# Altium footprint library Switch_Lib.PcbLib: 4 footprints
Each footprint in its own frame and in the unit in brackets; x right, y up, seen from the top. Pads: shape width x height; smd on the part's side, far side on the other; paste and mask are expansions set on the pad; w line width, h text height; cw(c..) or ccw(c..) is an arc to the next point about the centre after c.
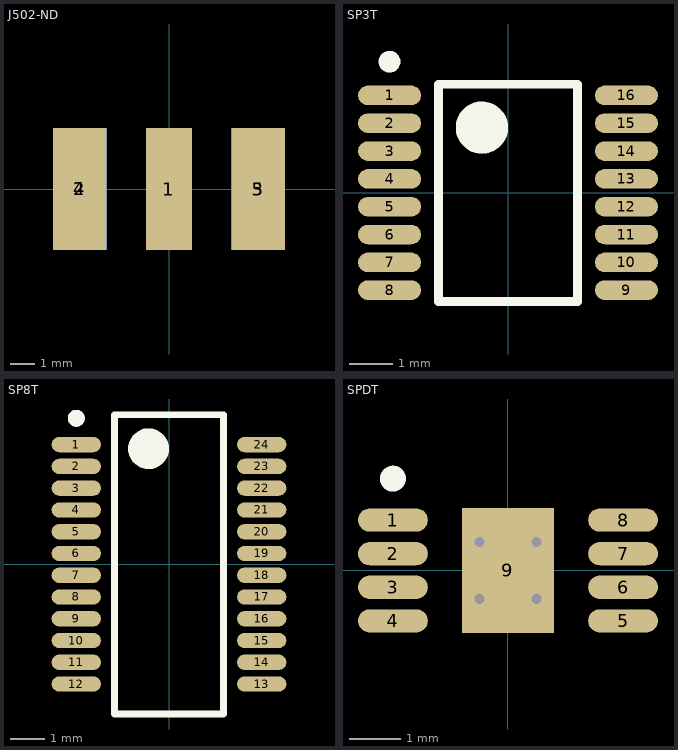
[diagram p0: the footprints below, top view; thin cyan lines are the x and y axes]

## J502-ND [mm]
pads (5):
  rect 1.9x5 smd: 1(-0.003,0)
  rect 2.2x5 smd: 2(-3.661,0) 3(3.661,0)
  rect 2.2x5 smd far side: 4(-3.661,0) 5(3.661,0)

## SP3T [mm] "SOP, 16-Leads, Body 4.90x3.90mm, Pitch 0.64mm, IPC Medium Density"
height 1.75
pads (16):
  oval 1.45x0.45 smd: 1(-2.725,2.24) 2(-2.725,1.6) 3(-2.725,0.96) 4(-2.725,0.32) 5(-2.725,-0.32) 6(-2.725,-0.96) 7(-2.725,-1.6) 8(-2.725,-2.24) 9(2.725,-2.24) 10(2.725,-1.6) 11(2.725,-0.96) 12(2.725,-0.32) 13(2.725,0.32) 14(2.725,0.96) 15(2.725,1.6) 16(2.725,2.24)
Top Overlay:
  circle w0.25: c-2.725,3.015 r0.125
  circle w0.6: c-0.6,1.5 r0.3
  lines w0.2: -1.6,-2.5 -1.6,2.5 1.6,2.5 1.6,-2.5 -1.6,-2.5

## SP8T [mm] "SOP, 24-Leads, Body 8.65x3.90mm, Pitch 0.64mm, IPC Medium Density"
height 1.75
pads (24):
  oval 1.45x0.45 smd: 1(-2.725,3.52) 2(-2.725,2.88) 3(-2.725,2.24) 4(-2.725,1.6) 5(-2.725,0.96) 6(-2.725,0.32) 7(-2.725,-0.32) 8(-2.725,-0.96) 9(-2.725,-1.6) 10(-2.725,-2.24) 11(-2.725,-2.88) 12(-2.725,-3.52) 13(2.725,-3.52) 14(2.725,-2.88) 15(2.725,-2.24) 16(2.725,-1.6) 17(2.725,-0.96) 18(2.725,-0.32) 19(2.725,0.32) 20(2.725,0.96) 21(2.725,1.6) 22(2.725,2.24) 23(2.725,2.88) 24(2.725,3.52)
Top Overlay:
  circle w0.6: c-0.6,3.4 r0.3
  circle w0.25: c-2.725,4.295 r0.125
  lines w0.2: -1.6,-4.4 1.6,-4.4 1.6,4.4 -1.6,4.4 -1.6,-4.4

## SPDT [mm] "SPDT"
height 1.1
pads (9):
  oval 1.35x0.45 smd: 1(-2.225,0.975) 2(-2.225,0.325) 3(-2.225,-0.325) 4(-2.225,-0.975) 5(2.225,-0.975) 6(2.225,-0.325) 7(2.225,0.325) 8(2.225,0.975)
  rect 1.78x2.41 smd: 9(0,0)
via -0.55,0.55 diameter 0.5 hole 0.2
via 0.55,0.55 diameter 0.5 hole 0.2
via 0.55,-0.55 diameter 0.5 hole 0.2
via -0.55,-0.55 diameter 0.5 hole 0.2
Top Overlay:
  circle w0.25: c-2.225,1.775 r0.125
Mechanical 15:
  lines w0.1: -0.5,0 0.5,0 ; 0,-0.5 0,0.5